# Altium footprint library WPME-VDRM.PcbLib: 3 footprints
Each footprint in its own frame and in the unit in brackets; x right, y up, seen from the top. Pads: shape width x height; smd on the part's side, far side on the other; paste and mask are expansions set on the pad; w line width, h text height; cw(c..) or ccw(c..) is an arc to the next point about the centre after c.
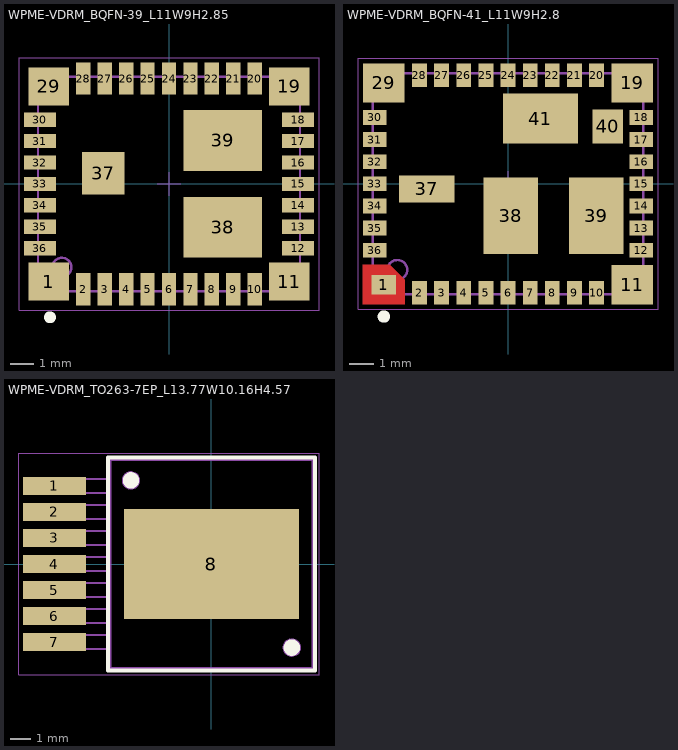
[diagram p0: the footprints below, top view; thin cyan lines are the x and y axes]

## WPME-VDRM_BQFN-39_L11W9H2.85 [mm] "Variable Step Down Regulator Module, body 11.00x9.00mm"
height 2.85
pads (39):
  rect 1.7x1.6 smd paste-403.566: 1(-5.05,-4.1) 11(5.05,-4.1) 19(5.05,4.1) 29(-5.05,4.1)
  rect 0.6x1.35 smd paste-403.566: 2(-3.6,-4.425) 3(-2.7,-4.425) 4(-1.8,-4.425) 5(-0.9,-4.425) 6(0,-4.425) 7(0.9,-4.425) 8(1.8,-4.425) 9(2.7,-4.425) 10(3.6,-4.425) 20(3.6,4.425) 21(2.7,4.425) 22(1.8,4.425) 23(0.9,4.425) 24(0,4.425) 25(-0.9,4.425) 26(-1.8,4.425) 27(-2.7,4.425) 28(-3.6,4.425)
  rect 1.35x0.6 smd paste-403.566: 12(5.425,-2.7) 13(5.425,-1.8) 14(5.425,-0.9) 15(5.425,0) 16(5.425,0.9) 17(5.425,1.8) 18(5.425,2.7) 30(-5.425,2.7) 31(-5.425,1.8) 32(-5.425,0.9) 33(-5.425,0) 34(-5.425,-0.9) 35(-5.425,-1.8) 36(-5.425,-2.7)
  rect 1.8x1.8 smd paste-403.566: 37(-2.76,0.45)
  rect 3.3x2.56 smd paste-403.566: 38(2.25,-1.82)
  rect 3.3x2.55 smd paste-403.566: 39(2.25,1.825)
Top Overlay:
  circle w0.25: c-5,-5.6 r0.125
Top Paste:
  rectangle: 0.8,-1.67 2.1,-0.74
  region: 3.7,-0.74 2.4,-0.74 2.4,-1.67 3.7,-1.67
  region: 3.7,-1.97 2.4,-1.97 2.4,-2.9 3.7,-2.9
  rectangle: 0.8,-2.9 2.1,-1.97
  rectangle: 0.8,0.745 2.1,1.675
  region: 3.7,1.675 2.4,1.675 2.4,0.745 3.7,0.745
  region: 3.7,2.905 2.4,2.905 2.4,1.975 3.7,1.975
  rectangle: 0.8,1.975 2.1,2.905
  rectangle: -3.46,-0.25 -2.91,0.3
  region: -2.06,0.3 -2.61,0.3 -2.61,-0.25 -2.06,-0.25
  region: -2.06,1.15 -2.61,1.15 -2.61,0.6 -2.06,0.6
  rectangle: -3.46,0.6 -2.91,1.15
  region: 3.875,-4.875 3.875,-3.975 3.325,-3.975 3.325,-4.875
  region: 2.975,-4.875 2.975,-3.975 2.425,-3.975 2.425,-4.875
  region: 2.075,-4.875 2.075,-3.975 1.525,-3.975 1.525,-4.875
  region: 1.175,-4.875 1.175,-3.975 0.625,-3.975 0.625,-4.875
  region: 0.275,-4.875 0.275,-3.975 -0.275,-3.975 -0.275,-4.875
  region: -0.625,-4.875 -0.625,-3.975 -1.175,-3.975 -1.175,-4.875
  region: -1.525,-4.875 -1.525,-3.975 -2.075,-3.975 -2.075,-4.875
  region: -2.425,-4.875 -2.425,-3.975 -2.975,-3.975 -2.975,-4.875
  region: -3.325,-4.875 -3.325,-3.975 -3.875,-3.975 -3.875,-4.875
  region: 3.875,3.975 3.875,4.875 3.325,4.875 3.325,3.975
  region: 2.975,3.975 2.975,4.875 2.425,4.875 2.425,3.975
  region: 2.075,3.975 2.075,4.875 1.525,4.875 1.525,3.975
  region: 1.175,3.975 1.175,4.875 0.625,4.875 0.625,3.975
  region: 0.275,3.975 0.275,4.875 -0.275,4.875 -0.275,3.975
  region: -0.625,3.975 -0.625,4.875 -1.175,4.875 -1.175,3.975
  region: -1.525,3.975 -1.525,4.875 -2.075,4.875 -2.075,3.975
  region: -2.425,3.975 -2.425,4.875 -2.975,4.875 -2.975,3.975
  region: -3.325,3.975 -3.325,4.875 -3.875,4.875 -3.875,3.975
  rectangle: 4.975,2.425 5.875,2.975
  rectangle: 4.975,1.525 5.875,2.075
  rectangle: 4.975,0.625 5.875,1.175
  rectangle: 4.975,-0.275 5.875,0.275
  rectangle: 4.975,-1.175 5.875,-0.625
  rectangle: 4.975,-2.075 5.875,-1.525
  rectangle: 4.975,-2.975 5.875,-2.425
  rectangle: -5.875,-2.975 -4.975,-2.425
  rectangle: -5.875,-2.075 -4.975,-1.525
  rectangle: -5.875,-1.175 -4.975,-0.625
  rectangle: -5.875,-0.275 -4.975,0.275
  rectangle: -5.875,0.625 -4.975,1.175
  rectangle: -5.875,1.525 -4.975,2.075
  rectangle: -5.875,2.425 -4.975,2.975
  rectangle: -5.675,3.325 -4.225,4.675
  region: 5.675,4.675 4.225,4.675 4.225,3.325 5.675,3.325
  region: 5.675,-3.325 4.225,-3.325 4.225,-4.675 5.675,-4.675
  rectangle: -5.675,-4.675 -4.225,-3.325
Top Designator:
  text ".Designator" at -7.498,-0.5 h1.5
Top Component Outline:
  circle w0.1: c-4.5,-3.5 r0.4
  lines w0.1: -5.5,-4.5 5.5,-4.5 5.5,4.5 -5.5,4.5 -5.5,-4.5
Top 3D Body:
  circle w0.1: c-4.5,-3.5 r0.4
  lines w0.1: -5.5,-4.5 5.5,-4.5 5.5,4.5 -5.5,4.5 -5.5,-4.5
Top Courtyard:
  lines w0.05: -0.5,0 0.5,0 ; 0,-0.5 0,0.5 ; -6.3,-5.3 -6.3,5.3 6.3,5.3 6.3,-5.3 -6.3,-5.3
3D body "STEP-MAGIC-VDRM-BQFN-39-rev1.stp": height 2.83, standoff -0.02, extent -5.501,-4.5 5.501,4.502

## WPME-VDRM_BQFN-41_L11W9H2.8 [mm] "Variable Step Down Regulator Module, body 11.00x9.00mm"
height 2.8
pads (41):
  rect 1x0.8 smd paste-2222 mask-2222: 1(-5.05,-4.1)
  rect 0.6x0.95 smd: 2(-3.6,-4.43) 3(-2.7,-4.43) 4(-1.8,-4.43) 5(-0.9,-4.43) 6(0,-4.43) 7(0.9,-4.43) 8(1.8,-4.43) 9(2.7,-4.43) 10(3.6,-4.43) 20(3.6,4.42) 21(2.7,4.42) 22(1.8,4.42) 23(0.9,4.42) 24(0,4.42) 25(-0.9,4.42) 26(-1.8,4.42) 27(-2.7,4.42) 28(-3.6,4.42)
  rect 1.7x1.6 smd: 11(5.05,-4.1) 19(5.05,4.1) 29(-5.05,4.1)
  rect 0.95x0.6 smd: 12(5.425,-2.7) 13(5.425,-1.8) 14(5.425,-0.9) 15(5.425,0) 16(5.425,0.9) 17(5.425,1.8) 18(5.425,2.7) 30(-5.425,2.7) 31(-5.425,1.8) 32(-5.425,0.9) 33(-5.425,0) 34(-5.425,-0.9) 35(-5.425,-1.8) 36(-5.425,-2.7)
  rect 2.25x1.1 smd: 37(-3.3,-0.21)
  rect 2.2x3.1 smd: 38(0.11,-1.3) 39(3.59,-1.3)
  rect 1.24x1.4 smd: 40(4.06,2.33)
  rect 3.05x2.04 smd: 41(1.32,2.65)
Top Layer:
  region: -4.2,-4.9 -5.9,-4.9 -5.9,-3.3 -4.8,-3.3 -4.2,-3.9
Top Overlay:
  circle w0.25: c-5.05,-5.4 r0.125
Top Designator:
  text ".Designator" at -7.498,-0.5 h1.5
Top Component Outline:
  circle w0.1: c-4.5,-3.5 r0.4
  lines w0.1: -5.5,-4.5 5.5,-4.5 5.5,4.5 -5.5,4.5 -5.5,-4.5
Top 3D Body:
  circle w0.1: c-4.5,-3.5 r0.4
  lines w0.1: -5.5,-4.5 5.5,-4.5 5.5,4.5 -5.5,4.5 -5.5,-4.5
Top Courtyard:
  lines w0.05: -0.5,0 0.5,0 ; 0,-0.5 0,0.5 ; -6.1,-5.1 6.1,-5.1 6.1,5.1 -6.1,5.1 -6.1,-5.1
3D body "STEP-MAGIC-VDRM-BQFN-41-rev1.stp": height 2.8, standoff -0.03, extent -5.5,-4.5 5.5,4.5

## WPME-VDRM_TO263-7EP_L13.77W10.16H4.57 [mm] "Variable Step Down Regulator Module, body 9.85x10.16"
height 4.57
pads (8):
  rect 3.06x0.89 smd: 1(-7.66,3.81) 2(-7.66,2.54) 3(-7.66,1.27) 4(-7.66,0) 5(-7.66,-1.27) 6(-7.66,-2.54) 7(-7.66,-3.81)
  rect 8.54x5.35 smd paste-10: 8(0,0)
Top Overlay:
  circle w0.4: c-3.925,4.08 r0.2
  circle w0.4: c3.925,-4.08 r0.2
  lines w0.2: -5.05,-5.205 -5.05,5.205 5.05,5.205 5.05,-5.205 -5.05,-5.205
Top Paste:
  region: -3.925,-1.39 -2.975,-1.39 -2.975,-2.48 -3.925,-2.48
  region: -2.775,-1.39 -1.825,-1.39 -1.825,-2.48 -2.775,-2.48
  region: -1.625,-1.39 -0.675,-1.39 -0.675,-2.48 -1.625,-2.48
  region: -0.475,-1.39 0.475,-1.39 0.475,-2.48 -0.475,-2.48
  region: 0.675,-1.39 1.625,-1.39 1.625,-2.48 0.675,-2.48
  region: 1.825,-1.39 2.775,-1.39 2.775,-2.48 1.825,-2.48
  region: 2.975,-1.39 3.925,-1.39 3.925,-2.48 2.975,-2.48
  region: -3.925,-0.1 -2.975,-0.1 -2.975,-1.19 -3.925,-1.19
  region: -2.775,-0.1 -1.825,-0.1 -1.825,-1.19 -2.775,-1.19
  region: -1.625,-0.1 -0.675,-0.1 -0.675,-1.19 -1.625,-1.19
  region: -0.475,-0.1 0.475,-0.1 0.475,-1.19 -0.475,-1.19
  region: 0.675,-0.1 1.625,-0.1 1.625,-1.19 0.675,-1.19
  region: 1.825,-0.1 2.775,-0.1 2.775,-1.19 1.825,-1.19
  region: 2.975,-0.1 3.925,-0.1 3.925,-1.19 2.975,-1.19
  region: -3.925,1.19 -2.975,1.19 -2.975,0.1 -3.925,0.1
  region: -2.775,1.19 -1.825,1.19 -1.825,0.1 -2.775,0.1
  region: -1.625,1.19 -0.675,1.19 -0.675,0.1 -1.625,0.1
  region: -0.475,1.19 0.475,1.19 0.475,0.1 -0.475,0.1
  region: 0.675,1.19 1.625,1.19 1.625,0.1 0.675,0.1
  region: 1.825,1.19 2.775,1.19 2.775,0.1 1.825,0.1
  region: 2.975,1.19 3.925,1.19 3.925,0.1 2.975,0.1
  region: 2.975,2.48 3.925,2.48 3.925,1.39 2.975,1.39
  region: 1.825,2.48 2.775,2.48 2.775,1.39 1.825,1.39
  region: 0.675,2.48 1.625,2.48 1.625,1.39 0.675,1.39
  region: -0.475,2.48 0.475,2.48 0.475,1.39 -0.475,1.39
  region: -1.625,2.48 -0.675,2.48 -0.675,1.39 -1.625,1.39
  region: -2.775,2.48 -1.825,2.48 -1.825,1.39 -2.775,1.39
  region: -3.925,2.48 -2.975,2.48 -2.975,1.39 -3.925,1.39
Top Designator:
  text ".Designator" at -7.498,-0.5 h1.5
Top Component Outline:
  circle w0.1: c3.925,-4.08 r0.4
  circle w0.1: c-3.925,4.08 r0.4
  lines w0.1: -4.925,-4.155 -8.845,-4.155 -8.845,-3.465 -4.925,-3.465 ; -4.925,-2.885 -8.845,-2.885 -8.845,-2.195 -4.925,-2.195 ; -4.925,-1.615 -8.845,-1.615 -8.845,-0.925 -4.925,-0.925 ; -4.925,-0.345 -8.845,-0.345 -8.845,0.345 -4.925,0.345 ; -4.925,0.925 -8.845,0.925 -8.845,1.615 -4.925,1.615 ; -4.925,2.195 -8.845,2.195 -8.845,2.885 -4.925,2.885 ; -4.925,3.465 -8.845,3.465 -8.845,4.155 -4.925,4.155 ; -4.925,-5.08 4.925,-5.08 4.925,5.08 -4.925,5.08 -4.925,-5.08
Top 3D Body:
  circle w0.1: c3.925,-4.08 r0.4
  circle w0.1: c-3.925,4.08 r0.4
  lines w0.1: -4.925,-4.155 -8.845,-4.155 -8.845,-3.465 -4.925,-3.465 ; -4.925,-2.885 -8.845,-2.885 -8.845,-2.195 -4.925,-2.195 ; -4.925,-1.615 -8.845,-1.615 -8.845,-0.925 -4.925,-0.925 ; -4.925,-0.345 -8.845,-0.345 -8.845,0.345 -4.925,0.345 ; -4.925,0.925 -8.845,0.925 -8.845,1.615 -4.925,1.615 ; -4.925,2.195 -8.845,2.195 -8.845,2.885 -4.925,2.885 ; -4.925,3.465 -8.845,3.465 -8.845,4.155 -4.925,4.155 ; -4.925,-5.08 4.925,-5.08 4.925,5.08 -4.925,5.08 -4.925,-5.08
Top Courtyard:
  lines w0.05: -0.5,0 0.5,0 ; 0,-0.5 0,0.5 ; -9.39,-5.405 -9.39,5.405 5.25,5.405 5.25,-5.405 -9.39,-5.405
3D body "STEP-MAGIC-VDRM-TO263-7EP-rev1.stp": height 4.77, standoff 0, extent -8.845,-5.08 4.925,5.08